# EAGLE library part MICROSD (library #PaJa_konektory)
MicroSD socked 112C-TXAR-R01 Attend technology
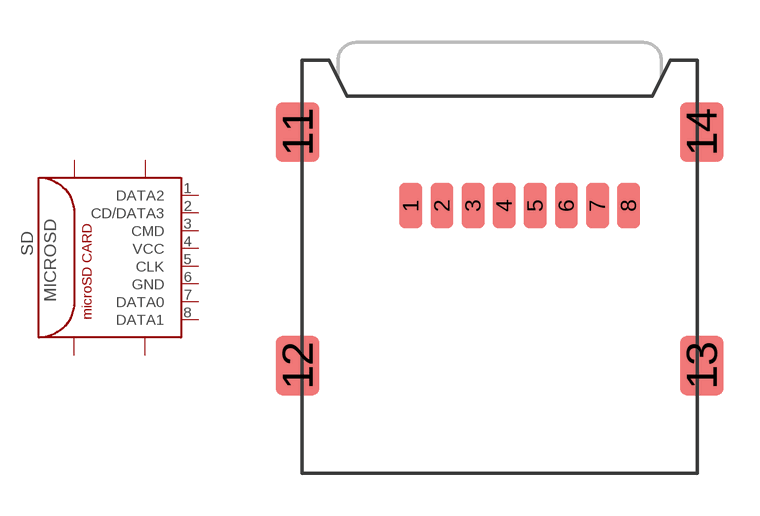
[diagram p35: symbol with the pads of MICRO_SD_CONNECTOR; footprint MICRO_SD_CONNECTOR]

Designator prefix SD

## MICROSD  [MICRO_SD_CONNECTOR]
1  DATA2
2  CD/DATA3
3  CMD
4  VCC  pwr
5  CLK
6  GND  pwr
7  DATA0
8  DATA1
11  CD(1)  pas
12  CD(2)  pas
13  CD(3)  pas
14  CD(4)  pas

## Footprint MICRO_SD_CONNECTOR (pad centres in mm)
MicroSD socked 112C-TXAR-R01 Attend technology
smd 0.8 x 1.6: 1 -3.141,1.215; 2 -2.041,1.215; 3 -0.941,1.215; 4 0.159,1.215; 5 1.259,1.215; 6 2.359,1.215; 7 3.459,1.215; 8 4.559,1.215
smd 1.55 x 2.1: 11 -7.144,3.81; 12 -7.144,-4.445; 13 7.144,-4.445; 14 7.144,3.81